# EAGLE library part TFP401 (library tfp401)
TFP401 TI PANELBUS DIGITAL RECEIVER
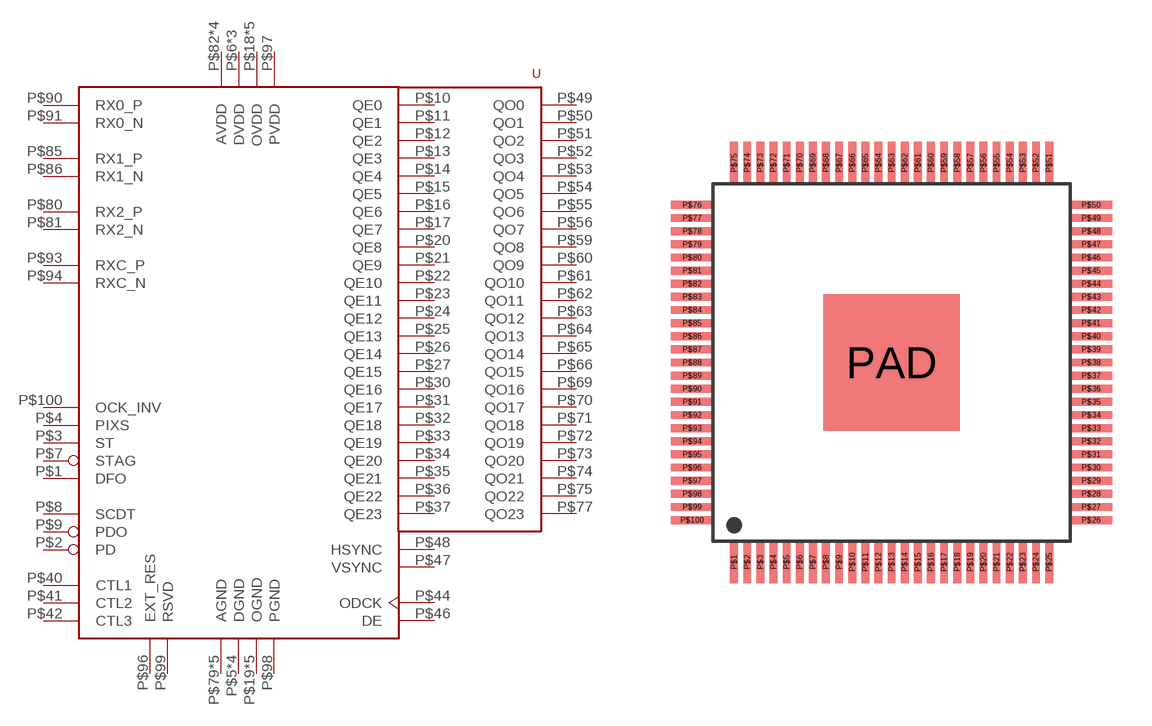
[diagram p0: symbol with the pads of PQFP-100; footprint PQFP-100]

Designator prefix -

## TFP401  [PQFP-100]
P$1  DFO
P$2  PD  in
P$3  ST  in
P$4  PIXS  in
P$5  DGND  pwr
P$6  DVDD  pwr
P$7  STAG  in
P$8  SCDT  out
P$9  PDO  in
P$10  QE0
P$11  QE1
P$12  QE2
P$13  QE3
P$14  QE4
P$15  QE5
P$16  QE6
P$17  QE7
P$18  OVDD  pwr
P$19  OGND  pwr
P$20  QE8
P$21  QE9
P$22  QE10
P$23  QE11
P$24  QE12
P$25  QE13
P$26  QE14
P$27  QE15
P$28  OGND  pwr
P$29  OVDD  pwr
P$30  QE16
P$31  QE17
P$32  QE18
P$33  QE19
P$34  QE20
P$35  QE21
P$36  QE22
P$37  QE23
P$38  DVDD  pwr
P$39  DGND  pwr
P$40  CTL1
P$41  CTL2
P$42  CTL3
P$43  OVDD  pwr
P$44  ODCK  out
P$45  OGND  pwr
P$46  DE
P$47  VSYNC
P$48  HSYNC
P$49  QO0
P$50  QO1
P$51  QO2
P$52  QO3
P$53  QO4
P$54  QO5
P$55  QO6
P$56  QO7
P$57  OVDD  pwr
P$58  OGND  pwr
P$59  QO8
P$60  QO9
P$61  QO10
P$62  QO11
P$63  QO12
P$64  QO13
P$65  QO14
P$66  QO15
P$67  DVDD  pwr
P$68  DGND  pwr
P$69  QO16
P$70  QO17
P$71  QO18
P$72  QO19
P$73  QO20
P$74  QO21
P$75  QO22
P$76  OGND  pwr
P$77  QO23
P$78  OVDD  pwr
P$79  AGND  pwr
P$80  RX2_P
P$81  RX2_N
P$82  AVDD  pwr
P$83  AGND  pwr
P$84  AVDD  pwr
P$85  RX1_P
P$86  RX1_N
P$87  AGND  pwr
P$88  AVDD  pwr
P$89  AGND  pwr
P$90  RX0_P
P$91  RX0_N
P$92  AGND  pwr
P$93  RXC_P
P$94  RXC_N
P$95  AVDD  pwr
P$96  EXT_RES  pas
P$97  PVDD  pwr
P$98  PGND  pwr
P$99  RSVD  pwr
P$100  OCK_INV
PAD  DGND  pwr

## Footprint PQFP-100 (pad centres in mm)
smd 0.3 x 1.6: P$1 -6,-7.6; P$2 -5.5,-7.6; P$3 -5,-7.6; P$4 -4.5,-7.6; P$5 -4,-7.6; P$6 -3.5,-7.6; P$7 -3,-7.6; P$8 -2.5,-7.6; P$9 -2,-7.6; P$10 -1.5,-7.6; P$11 -1,-7.6; P$12 -0.5,-7.6; P$13 0,-7.6; P$14 0.5,-7.6; P$15 1,-7.6; P$16 1.5,-7.6; P$17 2,-7.6; P$18 2.5,-7.6; P$19 3,-7.6; P$20 3.5,-7.6; P$21 4,-7.6; P$22 4.5,-7.6; P$23 5,-7.6; P$24 5.5,-7.6; P$25 6,-7.6; P$51 6,7.6; P$52 5.5,7.6; P$53 5,7.6; P$54 4.5,7.6; P$55 4,7.6; P$56 3.5,7.6; P$57 3,7.6; P$58 2.5,7.6; P$59 2,7.6; P$60 1.5,7.6; P$61 1,7.6; P$62 0.5,7.6; P$63 0,7.6; P$64 -0.5,7.6; P$65 -1,7.6; P$66 -1.5,7.6; P$67 -2,7.6; P$68 -2.5,7.6; P$69 -3,7.6; P$70 -3.5,7.6; P$71 -4,7.6; P$72 -4.5,7.6; P$73 -5,7.6; P$74 -5.5,7.6; P$75 -6,7.6
smd 1.6 x 0.3: P$26 7.6,-6; P$27 7.6,-5.5; P$28 7.6,-5; P$29 7.6,-4.5; P$30 7.6,-4; P$31 7.6,-3.5; P$32 7.6,-3; P$33 7.6,-2.5; P$34 7.6,-2; P$35 7.6,-1.5; P$36 7.6,-1; P$37 7.6,-0.5; P$38 7.6,0; P$39 7.6,0.5; P$40 7.6,1; P$41 7.6,1.5; P$42 7.6,2; P$43 7.6,2.5; P$44 7.6,3; P$45 7.6,3.5; P$46 7.6,4; P$47 7.6,4.5; P$48 7.6,5; P$49 7.6,5.5; P$50 7.6,6; P$76 -7.6,6; P$77 -7.6,5.5; P$78 -7.6,5; P$79 -7.6,4.5; P$80 -7.6,4; P$81 -7.6,3.5; P$82 -7.6,3; P$83 -7.6,2.5; P$84 -7.6,2; P$85 -7.6,1.5; P$86 -7.6,1; P$87 -7.6,0.5; P$88 -7.6,0; P$89 -7.6,-0.5; P$90 -7.6,-1; P$91 -7.6,-1.5; P$92 -7.6,-2; P$93 -7.6,-2.5; P$94 -7.6,-3; P$95 -7.6,-3.5; P$96 -7.6,-4; P$97 -7.6,-4.5; P$98 -7.6,-5; P$99 -7.6,-5.5; P$100 -7.6,-6
smd 5.2 x 5.2: PAD 0,0